# EAGLE library part 6N137 (library RS-parts)
Everlight Optoisolator
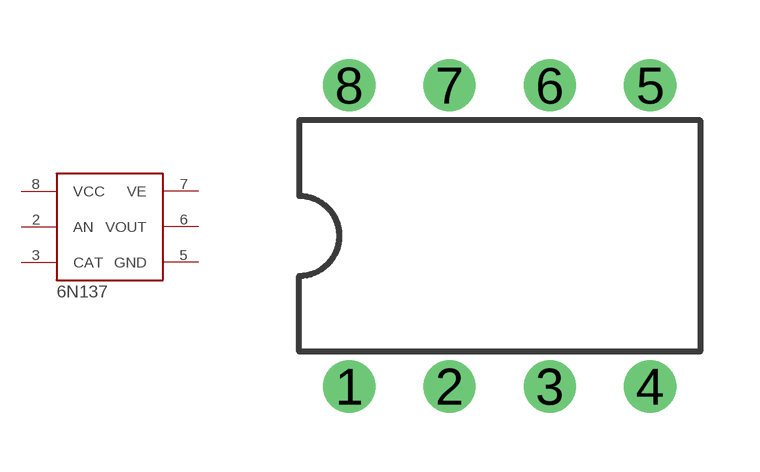
[diagram p0: symbol with the pads of DIL08; footprint DIL08]

Designator prefix -

## 6N137  [DIL08]
2  AN
3  CAT
5  GND
6  VOUT
7  VE
8  VCC

## Footprint DIL08 (pad centres in mm)
Dual In Line Package
drill 0.813 pad 1.27: 1 -3.81,-3.81; 2 -1.27,-3.81; 3 1.27,-3.81; 4 3.81,-3.81; 5 3.81,3.81; 6 1.27,3.81; 7 -1.27,3.81; 8 -3.81,3.81